# Altium footprint library O_JonF_DaveL.PcbLib: 331 footprints (part 7 of 21)
Each footprint in its own frame and in the unit in brackets; x right, y up, seen from the top. Pads: shape width x height; smd on the part's side, far side on the other; paste and mask are expansions set on the pad; w line width, h text height; cw(c..) or ccw(c..) is an arc to the next point about the centre after c.
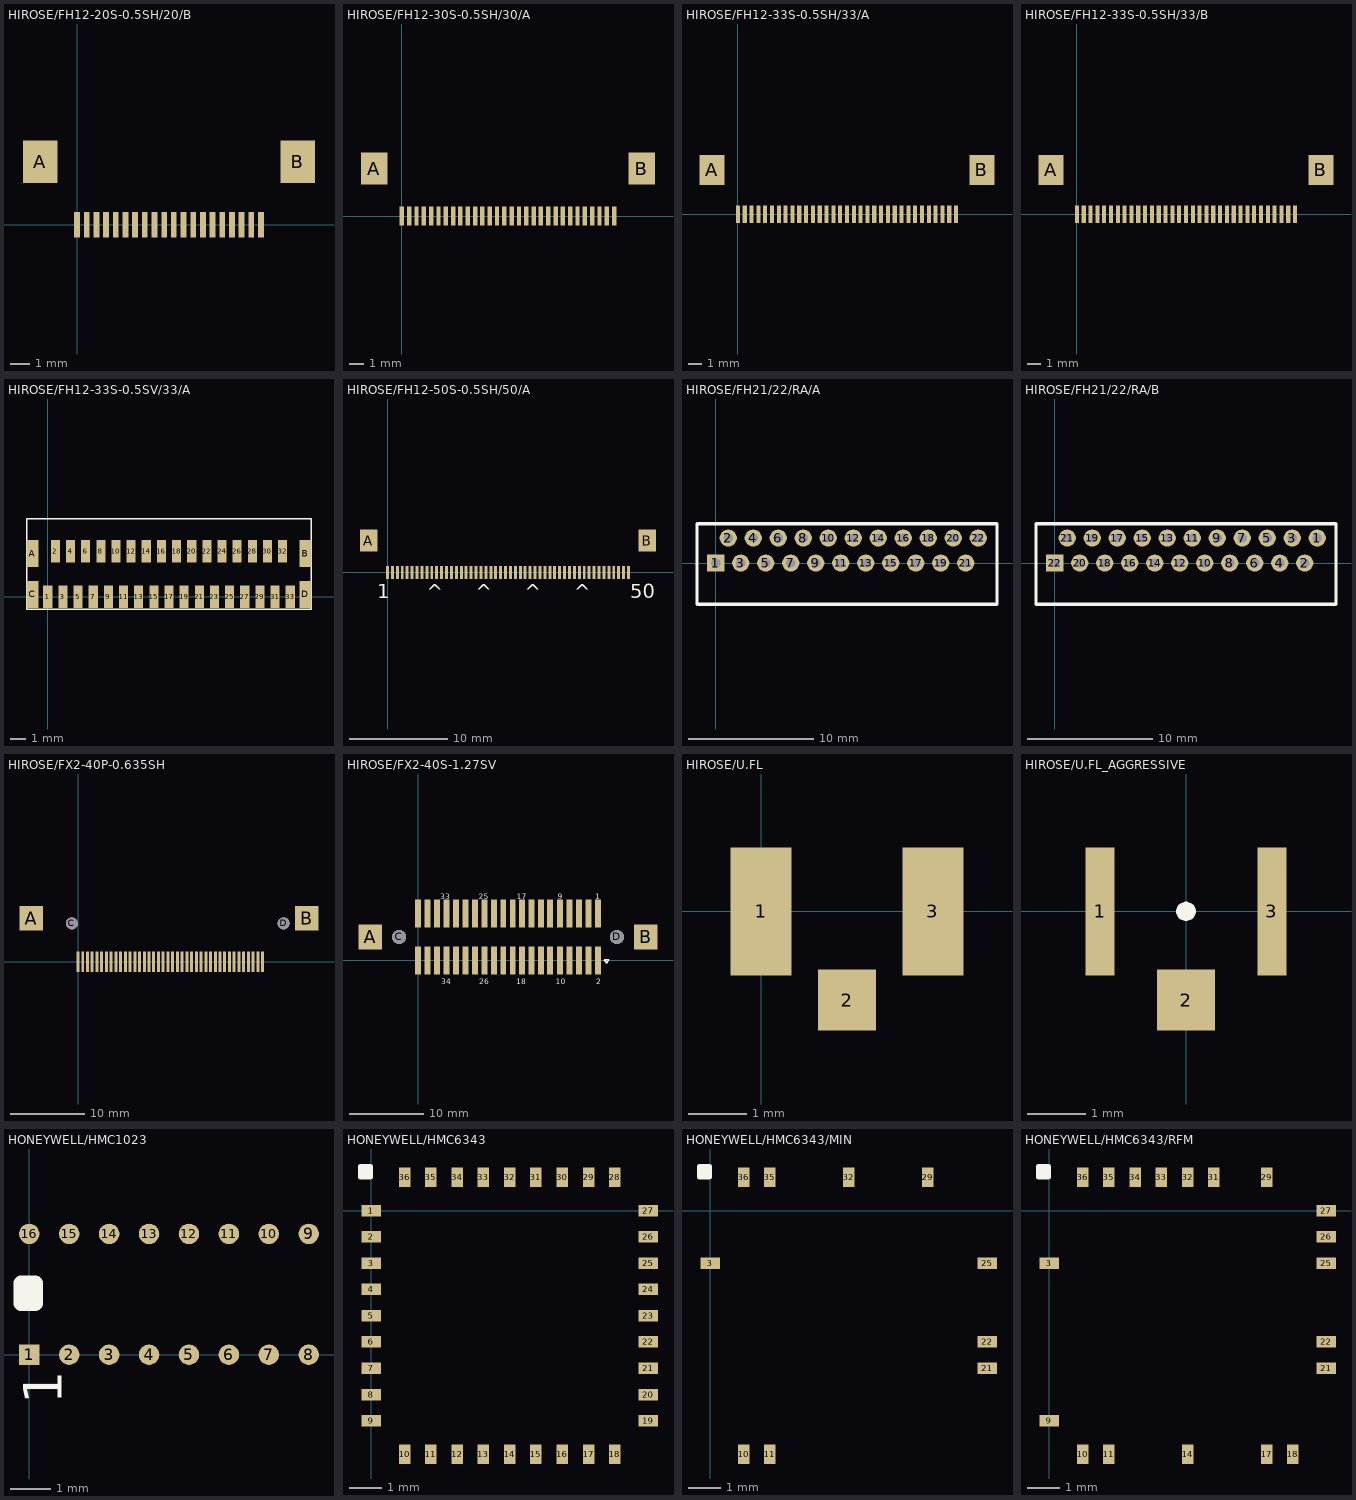
[diagram p6: the footprints below, top view; thin cyan lines are the x and y axes]

## HIROSE/FH12-20S-0.5SH/20/B [mm]
pads (22):
  rect 0.3x1.3 smd: 1(9.5,0) 2(9,0) 3(8.5,0) 4(8,0) 5(7.5,0) 6(7,0) 7(6.5,0) 8(6,0) 9(5.5,0) 10(5,0) 11(4.5,0) 12(4,0) 13(3.5,0) 14(3,0) 15(2.5,0) 16(2,0) 17(1.5,0) 18(1,0) 19(0.5,0) 20(0,0)
  rect 1.8x2.2 smd: A(-1.9,3.25) B(11.4,3.25)

## HIROSE/FH12-30S-0.5SH/30/A [mm]
pads (32):
  rect 0.3x1.3 smd: 1(0,0) 2(0.5,0) 3(1,0) 4(1.5,0) 5(2,0) 6(2.5,0) 7(3,0) 8(3.5,0) 9(4,0) 10(4.5,0) 11(5,0) 12(5.5,0) 13(6,0) 14(6.5,0) 15(7,0) 16(7.5,0) 17(8,0) 18(8.5,0) 19(9,0) 20(9.5,0) 21(10,0) 22(10.5,0) 23(11,0) 24(11.5,0) 25(12,0) 26(12.5,0) 27(13,0) 28(13.5,0) 29(14,0) 30(14.5,0)
  rect 1.8x2.2 smd: A(-1.9,3.25) B(16.4,3.25)
Top Overlay:
  text ".Designator" at -3,-3 h1.5
Mechanical 1:
  text ".Pattern" at -3,5 h1.5
  text ".Comment" at -3,9 h1.5
  text ".Designator" at -3,-3 h1.5

## HIROSE/FH12-33S-0.5SH/33/A [mm]
pads (35):
  rect 0.3x1.3 smd: 1(0,0) 2(0.5,0) 3(1,0) 4(1.5,0) 5(2,0) 6(2.5,0) 7(3,0) 8(3.5,0) 9(4,0) 10(4.5,0) 11(5,0) 12(5.5,0) 13(6,0) 14(6.5,0) 15(7,0) 16(7.5,0) 17(8,0) 18(8.5,0) 19(9,0) 20(9.5,0) 21(10,0) 22(10.5,0) 23(11,0) 24(11.5,0) 25(12,0) 26(12.5,0) 27(13,0) 28(13.5,0) 29(14,0) 30(14.5,0) 31(15,0) 32(15.5,0) 33(16,0)
  rect 1.8x2.2 smd: A(-1.9,3.25) B(17.9,3.25)
Top Overlay:
  text ".Designator" at -3,-3 h1.5
Mechanical 1:
  text ".Designator" at -3,-3 h1.5
  text ".Comment" at -3,9 h1.5
  text ".Pattern" at -3,5 h1.5

## HIROSE/FH12-33S-0.5SH/33/B [mm]
pads (35):
  rect 0.3x1.3 smd: 1(16,0) 2(15.5,0) 3(15,0) 4(14.5,0) 5(14,0) 6(13.5,0) 7(13,0) 8(12.5,0) 9(12,0) 10(11.5,0) 11(11,0) 12(10.5,0) 13(10,0) 14(9.5,0) 15(9,0) 16(8.5,0) 17(8,0) 18(7.5,0) 19(7,0) 20(6.5,0) 21(6,0) 22(5.5,0) 23(5,0) 24(4.5,0) 25(4,0) 26(3.5,0) 27(3,0) 28(2.5,0) 29(2,0) 30(1.5,0) 31(1,0) 32(0.5,0) 33(0,0)
  rect 1.8x2.2 smd: A(-1.9,3.25) B(17.9,3.25)

## HIROSE/FH12-33S-0.5SV/33/A [mm]
pads (37):
  rect 0.6x1.5 smd: 1(0,0) 2(0.5,3) 3(1,0) 4(1.5,3) 5(2,0) 6(2.5,3) 7(3,0) 8(3.5,3) 9(4,0) 10(4.5,3) 11(5,0) 12(5.5,3) 13(6,0) 14(6.5,3) 15(7,0) 16(7.5,3) 17(8,0) 18(8.5,3) 19(9,0) 20(9.5,3) 21(10,0) 22(10.5,3) 23(11,0) 24(11.5,3) 25(12,0) 26(12.5,3) 27(13,0) 28(13.5,3) 29(14,0) 30(14.5,3) 31(15,0) 32(15.5,3) 33(16,0)
  rect 0.8x1.8 smd: A(-1,2.85) B(17,2.85) C(-1,0.15) D(17,0.15)
Top Overlay:
  lines w0.1: -1.4,-0.82 -1.4,5.134 17.4,5.134 17.4,-0.82 -1.4,-0.82
  text ".Designator" at -1.489,-0.8 h1.5
Mechanical 1:
  text "Retention Latch Overhangs Area" at 0.1,3.9 h0.56
  text "Insert FFC Electrical This Side" at -0.1,-1.8 h0.56
  text ".Comment" at -3,9 h1.5
  text ".Designator" at -1.489,-0.8 h1.5
  text ".Pattern" at -3,5 h1.5

## HIROSE/FH12-50S-0.5SH/50/A [mm]
pads (52):
  rect 0.3x1.3 smd: 1(0,0) 2(0.5,0) 3(1,0) 4(1.5,0) 5(2,0) 6(2.5,0) 7(3,0) 8(3.5,0) 9(4,0) 10(4.5,0) 11(5,0) 12(5.5,0) 13(6,0) 14(6.5,0) 15(7,0) 16(7.5,0) 17(8,0) 18(8.5,0) 19(9,0) 20(9.5,0) 21(10,0) 22(10.5,0) 23(11,0) 24(11.5,0) 25(12,0) 26(12.5,0) 27(13,0) 28(13.5,0) 29(14,0) 30(14.5,0) 31(15,0) 32(15.5,0) 33(16,0) 34(16.5,0) 35(17,0) 36(17.5,0) 37(18,0) 38(18.5,0) 39(19,0) 40(19.5,0) 41(20,0) 42(20.5,0) 43(21,0) 44(21.5,0) 45(22,0) 46(22.5,0) 47(23,0) 48(23.5,0) 49(24,0) 50(24.5,0)
  rect 1.8x2.2 smd: A(-1.9,3.25) B(26.4,3.25)
Top Overlay:
  text ".Designator" at 8.311,-3.925 h1.5
  text "1" at -1.025,-2.625 h1.43
  text "^" at 8.975,-2.625 h1.43
  text "^" at 3.975,-2.625 h1.43
  text "^" at 13.975,-2.625 h1.43
  text "^" at 18.975,-2.625 h1.43
  text "50" at 24.675,-2.625 h1.43
Mechanical 1:
  text ".Pattern" at -3,5 h1.5
  text ".Comment" at -3,9 h1.5
  text ".Designator" at -3,11 h1.5

## HIROSE/FH21/22/RA/A [mm]
pads (22):
  rect 1.372x1.372 hole 0.75: 1(0,0)
  round 1.372 hole 0.75: 2(1,2) 3(2,0) 4(3,2) 5(4,0) 6(5,2) 7(6,0) 8(7,2) 9(8,0) 10(9,2) 11(10,0) 12(11,2) 13(12,0) 14(13,2) 15(14,0) 16(15,2) 17(16,0) 18(17,2) 19(18,0) 20(19,2) 21(20,0) 22(21,2)
Top Overlay:
  lines w0.254: -1.5,-3.3 -1.5,3.15 22.5,3.15 22.5,-3.3 -1.5,-3.3
  text ".Designator" at 15.55,3.55 h1.5
Mechanical 1:
  text ".Pattern" at -1.36,-10.58 h1.5
  text "CABLE CONNECTS HERE" at 1.12,-2.84 h0.95
  text ".Designator" at 15.52,3.51 h1.5
  text ".Comment" at -1.28,-6.1 h1.5

## HIROSE/FH21/22/RA/B [mm]
pads (22):
  round 1.372 hole 0.75: 1(21,2) 2(20,0) 3(19,2) 4(18,0) 5(17,2) 6(16,0) 7(15,2) 8(14,0) 9(13,2) 10(12,0) 11(11,2) 12(10,0) 13(9,2) 14(8,0) 15(7,2) 16(6,0) 17(5,2) 18(4,0) 19(3,2) 20(2,0) 21(1,2)
  rect 1.372x1.372 hole 0.75: 22(0,0)
Top Overlay:
  lines w0.254: -1.5,-3.3 -1.5,3.15 22.5,3.15 22.5,-3.3 -1.5,-3.3
Mechanical 1:
  text "CABLE CONNECTS HERE" at 1.12,-2.84 h0.95

## HIROSE/FX2-40P-0.635SH [mm]
pads (44):
  rect 0.4x2.8 smd: 1(0,0) 2(0.635,0) 3(1.27,0) 4(1.905,0) 5(2.54,0) 6(3.175,0) 7(3.81,0) 8(4.445,0) 9(5.08,0) 10(5.715,0) 11(6.35,0) 12(6.985,0) 13(7.62,0) 14(8.255,0) 15(8.89,0) 16(9.525,0) 17(10.16,0) 18(10.795,0) 19(11.43,0) 20(12.065,0) 21(12.7,0) 22(13.335,0) 23(13.97,0) 24(14.605,0) 25(15.24,0) 26(15.875,0) 27(16.51,0) 28(17.145,0) 29(17.78,0) 30(18.415,0) 31(19.05,0) 32(19.685,0) 33(20.32,0) 34(20.955,0) 35(21.59,0) 36(22.225,0) 37(22.86,0) 38(23.495,0) 39(24.13,0) 40(24.765,0)
  rect 3.1x3.3 smd: A(-6.267,5.85) B(30.683,5.85)
  round 1.6 hole 1.6: C(-0.817,5.15) D(27.583,5.15)
Mechanical 1:
  text "Note: Mating On This Side" at 4.784,8.029 h0.75

## HIROSE/FX2-40S-1.27SV [mm]
pads (44):
  rect 0.8x3.75 smd: 1(24.13,6.25) 2(24.13,0) 3(22.86,6.25) 4(22.86,0) 5(21.59,6.25) 6(21.59,0) 7(20.32,6.25) 8(20.32,0) 9(19.05,6.25) 10(19.05,0) 11(17.7,6.25) 12(17.7,0) 13(16.51,6.25) 14(16.51,0) 15(15.24,6.25) 16(15.24,0) 17(13.97,6.25) 18(13.97,0) 19(12.7,6.25) 20(12.7,0) 21(11.43,6.25) 22(11.43,0) 23(10.16,6.25) 24(10.16,0) 25(8.89,6.25) 26(8.89,0) 27(7.62,6.25) 28(7.62,0) 29(6.35,6.25) 30(6.35,0) 31(5.08,6.25) 32(5.08,0) 33(3.81,6.25) 34(3.81,0) 35(2.54,6.25) 36(2.54,0) 37(1.27,6.25) 38(1.27,0) 39(0,6.25) 40(0,0)
  rect 3.1x3.3 smd: A(-6.41,3.125) B(30.54,3.125)
  round 1.9 hole 1.9: C(-2.54,3.125) D(26.67,3.125)
Top Overlay:
  lines w0.2: 25.004,0.06 25.584,0.061 25.316,-0.378 25.005,0.058
  text "18" at 13.175,-3.24 h0.75
  text "25" at 8.136,8.2 h0.75
  text "26" at 8.183,-3.24 h0.75
  text "17" at 13.248,8.2 h0.75
  text "33" at 2.988,8.2 h0.75
  text "34" at 3.083,-3.24 h0.75
  text "1" at 23.782,8.2 h0.75
  text "9" at 18.731,8.2 h0.75
  text "2" at 23.878,-3.24 h0.75
  text "10" at 18.44,-3.24 h0.75

## HIROSE/U.FL [mm]
pads (3):
  rect 1.05x2.2 smd: 1(0,0) 3(2.95,0)
  rect 1x1.05 smd: 2(1.475,-1.525)

## HIROSE/U.FL_AGGRESSIVE [mm]
pads (3):
  rect 0.5x2.2 smd: 1(-1.475,0) 3(1.475,0)
  rect 1x1.05 smd: 2(0,-1.525)
Top Overlay:
  region: 0.103,0.132 0.132,0.103 0.157,0.042 0.157,0.041 0.158,0.04 0.166,0.021 0.166,-0.021 0.132,-0.103 0.103,-0.132 0.021,-0.166 -0.021,-0.166 -0.103,-0.132 -0.132,-0.103 -0.166,-0.021 -0.166,0.021 -0.132,0.103 -0.103,0.132 -0.021,0.166 0.021,0.166

## HONEYWELL/HMC1023 [mil]
pads (16):
  rect 20x20 smd: 1(0,0)
  round 20 smd: 2(39,0) 3(78,0) 4(117,0) 5(156,0) 6(195,0) 7(234,0) 8(273,0) 9(273,118) 10(234,118) 11(195,118) 12(156,118) 13(117,118) 14(78,118) 15(39,118) 16(0,118)
Top Overlay:
  lines w15: -8,50 6,50 6,70 -8,70 -8,50
  text "1" at 31.55,-48.45 h37.5

## HONEYWELL/HMC6343 [mm]
pads (36):
  rect 0.6x0.35 smd: 1(0,0) 2(0,-0.8) 3(0,-1.6) 4(0,-2.4) 5(0,-3.2) 6(0,-4) 7(0,-4.8) 8(0,-5.6) 9(0,-6.4) 19(8.43,-6.4) 20(8.43,-5.6) 21(8.43,-4.8) 22(8.43,-4) 23(8.43,-3.2) 24(8.43,-2.4) 25(8.43,-1.6) 26(8.43,-0.8) 27(8.43,0)
  rect 0.35x0.6 smd: 10(1.015,-7.415) 11(1.815,-7.415) 12(2.615,-7.415) 13(3.415,-7.415) 14(4.215,-7.415) 15(5.015,-7.415) 16(5.815,-7.415) 17(6.615,-7.415) 18(7.415,-7.415) 28(7.415,1.015) 29(6.615,1.015) 30(5.815,1.015) 31(5.015,1.015) 32(4.215,1.015) 33(3.415,1.015) 34(2.615,1.015) 35(1.815,1.015) 36(1.015,1.015)
Top Overlay:
  region: 0.028,1.403 0.044,1.365 0.044,1.01 0.028,0.972 -0.01,0.956 -0.35,0.956 -0.388,0.972 -0.404,1.01 -0.404,1.365 -0.388,1.403 -0.35,1.419 -0.01,1.419

## HONEYWELL/HMC6343/MIN [mm]
pads (10):
  rect 0.6x0.35 smd: 3(0,-1.6) 21(8.43,-4.8) 22(8.43,-4) 25(8.43,-1.6)
  rect 0.35x0.6 smd: 10(1.015,-7.415) 11(1.815,-7.415) 29(6.615,1.015) 32(4.215,1.015) 35(1.815,1.015) 36(1.015,1.015)
Top Overlay:
  region: 0.028,1.403 0.044,1.365 0.044,1.01 0.028,0.972 -0.01,0.956 -0.35,0.956 -0.388,0.972 -0.404,1.01 -0.404,1.365 -0.388,1.403 -0.35,1.419 -0.01,1.419
  text ".Designator" at -0.57,1.55 h1.5
Mechanical 1:
  text ".Pattern" at 0,0 h1.5
  text ".Comment" at 0,6 h1.5
  text ".Designator" at 0,9 h1.5

## HONEYWELL/HMC6343/RFM [mm]
pads (19):
  rect 0.6x0.35 smd: 3(0,-1.6) 9(0,-6.4) 21(8.43,-4.8) 22(8.43,-4) 25(8.43,-1.6) 26(8.43,-0.8) 27(8.43,0)
  rect 0.35x0.6 smd: 10(1.015,-7.415) 11(1.815,-7.415) 14(4.215,-7.415) 17(6.615,-7.415) 18(7.415,-7.415) 29(6.615,1.015) 31(5.015,1.015) 32(4.215,1.015) 33(3.415,1.015) 34(2.615,1.015) 35(1.815,1.015) 36(1.015,1.015)
Top Overlay:
  region: 0.028,1.403 0.044,1.365 0.044,1.01 0.028,0.972 -0.01,0.956 -0.35,0.956 -0.388,0.972 -0.404,1.01 -0.404,1.365 -0.388,1.403 -0.35,1.419 -0.01,1.419
  text ".Designator" at -0.57,1.55 h1.5
Mechanical 1:
  text ".Pattern" at 0,0 h1.5
  text ".Comment" at 0,6 h1.5
  text ".Designator" at 0,9 h1.5